# Altium schematic symbol library MDBU014A.SCHLIB: 81 symbols (part 2 of 2)
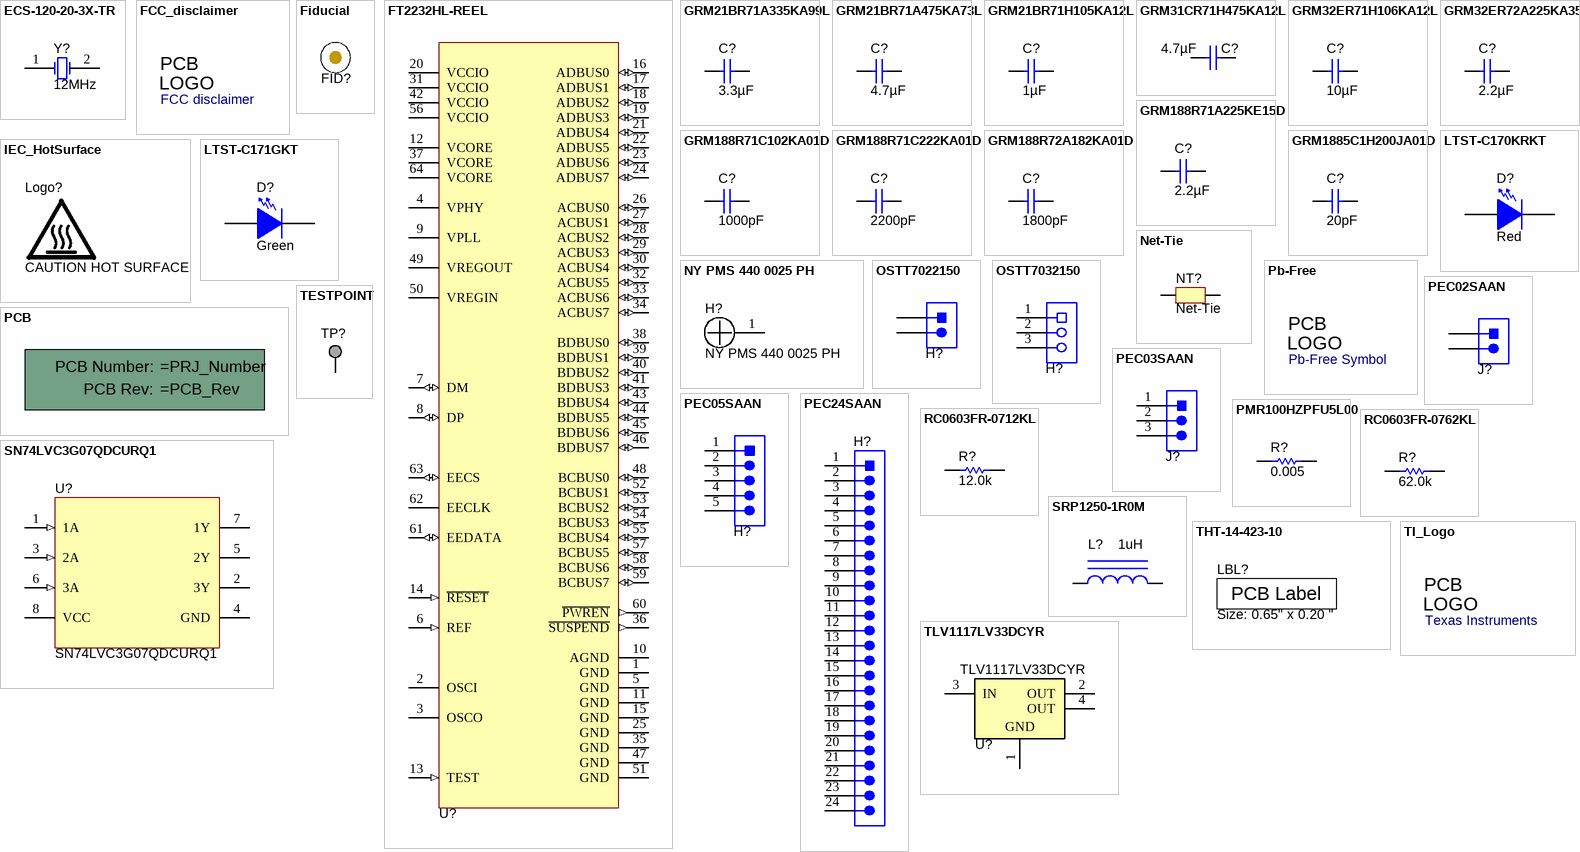
[diagram p3: symbols ECS-120-20-3X-TR to TLV1117LV33DCYR]

## LTST-C171GKT
designator D?  value Green  (hidden comment: LTST-C171GKT)
LED, Green, SMD; Manufacturer: Lite-On; Type: AlInGaP; Vf_V: 2.1; Value2: 2.1V; Io_A: 20; Value1: W; U/M: EA; CompType: LED; PartNumber: LTST-C171GKT; SymbolVersion: 2008-12-08; MountType: SMT; RoHS: Y; PackageReference: LED_0805; Color: green; Published: 2008-07-11; Publisher: Texas Instruments; ComponentLink1URL: https://sps06.itg.ti.com/sites/KMS/crossdivteams/altium/docs/ComponentDatasheets/LTST-C171GKT.pdf; ComponentLink1Description: Datasheet link; LatestRevisionDate: 2015-12-04; Supplier 1: Digi-Key; Supplier Part Number 1: 160-1423-1-ND; Supplier 2: Mouser; Supplier Part Number 2: 859-LTST-C171GKT
signal-integrity model Diode
footprint LED_LTST-C171
pins: 1 A, 2 K

## Net-Tie
designator NT?  (net tie, no BOM)
Single point connection between nets.; SymbolCreator: codlsc; SymbolVersion: 2009-07-01; MountType: SMT; Publisher: Texas Instruments; LatestRevisionDate: 2015-10-18; LatestRevisionNote: Added Alternate PartNumber and Alternate Manufacturer parameters to appropriate components.; PackageReference: N/A
footprint Net-Tie_10mil
footprint NetTie_1206 (1206 pads tied by 10mil copper trace which can be cut.  Part can be placed on pads.)
footprint Net-Tie_0805_HV
footprint NetTie_1206_NoOverlay (1206 pads tied by 10mil copper trace which can be cut.  Part can be placed on pads.)
footprint Net-Tie_0805_HV_NoOverlay (0805_HV pads tied by 10mil copper trace which can be cut.  An 0805 part can be placed on pads.)
footprint Net-Tie_10milWide_30milLong
footprint Net-Tie_20milWide_60milLong
footprint NetTie_0603
footprint NetTie_0402
footprint Net-Tie_50milWide_30milLong
pins: 1, 2

## NY PMS 440 0025 PH
designator H?
Machine Screw, Round, #4-40 x 1/4, Nylon, Philips panhead; Manufacturer: B&F Fastener Supply; CompType: Hardware; SymbolCreator: codlsc; U/M: EA; SymbolVersion: 2009-10-28; MountType: N/A; RoHS: Y; PartNumber: NY PMS 440 0025 PH; PackageReference: Screw; DigiKeyPartNumber: H542-ND; ComponentLink1Description: Datasheet Link; ComponentLink1URL: http://www.fasnetdirect.com/refguide/Nylpanms.pdf; ClassName: Mounting Holes; LatestRevisionDate: 2015-12-01; Publisher: Texas Instruments; Supplier 1: Digi-Key; Supplier Part Number 1: H542-ND
footprint NY PMS 440 0025 PH
footprint NY PMS 440 0025 PH_3Donly
pins: 1

## OSTT7022150
designator H?  (value not drawn)
Terminal Block, 30A, 9.52mm (.375) Pitch, 2-Pos, TH; Manufacturer: On-Shore Technology; SymbolCreator: a0412235; CompType: Connector; SymbolVersion: 2013-10-31; PartNumber: OSTT7022150; PackageReference: 19.62x21.5x12.5mm; RoHS: Y; MountType: TH; ComponentLink1Description: Datasheet URL; ComponentLink1URL: http://on-shore.com/sites/default/files/manuals/OSTT7XX2150.pdf; Publisher: Texas Instruments; LatestRevisionDate: 2015-12-23; Supplier 1: Digi-Key; Supplier Part Number 1: ED2677-ND
footprint TERM_BLK_OSTT7022150
pins: 1, 2
1 alternate drawing of the same symbol

## OSTT7032150
designator H?  (value not drawn)
Terminal Block, 3x1, 9.52mm, TH; Manufacturer: On-Shore Technology; SymbolCreator: a0412235; Pitch_mm: 9.52; Gender: Female; Row_Count: 1; ContactFinish: Brass; SymbolVersion: 2013-10-03; PartNumber: OSTT7032150; PackageReference: Terminal Block, 3x1, 9.52mm, TH; CompType: Terminal Block; RoHS: Y; MountType: TH; ComponentLink1Description: Datasheet URL; ComponentLink1URL: http://www.on-shore.com/sites/default/files/manuals/OSTT7XX2150.pdf; Orientation: Vertical; PinCount: 3; Color: Green; Publisher: Texas Instruments; LatestRevisionDate: 2015-12-23; Supplier 1: Digi-Key; Supplier Part Number 1: ED2678-ND
footprint On-Shore_OSTT7032150
pins: 1, 2, 3

## Pb-Free
designator Logo?, comment Pb-Free Symbol  (no BOM)
SymbolCreator: a0412235; SymbolVersion: 2011-08-22; Published: 2009-03-03; Publisher: Texas Instruments; LatestRevisionDate: 2014-11-20
footprint Pb-Free_Overlay_Medium
footprint Pb-Free_Overlay_Small
text: PCB; LOGO

## PCB
designator !PCB?, comment Printed Circuit Board  (value not drawn)  (mechanical)
Manufacturer: Any; SymbolCreator: a0412235; CompType: PCB; SymbolVersion: 2012-05-30; PartNumber: =PRJ_Number; RoHS: O; MountType: N/A; Publisher: Texas Instruments; LatestRevisionDate: 2015-12-01
1 alternate drawing of the same symbol
text: PCB Number:; PCB Rev:

## PEC02SAAN
designator J?  (value not drawn)
Header, 100mil, 2x1, Tin, TH; Manufacturer: Sullins Connector Solutions; SymbolCreator: a0412235; Pitch_mm: 2.54; Gender: Male; Shrouded: N; Row_Count: 1; Current_A: 3; Voltage_V: 1800; Cert_UL: Y; SymbolVersion: 2013-10-31; PartNumber: PEC02SAAN; PackageReference: Header, 2 PIN, 100mil, Tin; ClassName: Header; CompType: Header; RoHS: Y; MountType: TH; ComponentLink1Description: Datasheet URL; ComponentLink1URL: http://www.sullinscorp.com/catalogs/77_PAGE108-109_.100_MALE_HDR.pdf; Orientation: Vertical; PinCount: 2; ContactFinish: Tin; Color: Black; Publisher: Texas Instruments; LatestRevisionDate: 2015-12-04; Supplier 1: Digi-Key; Supplier Part Number 1: S1012E-02-ND
footprint CONN_PEC02SAAN
pins: 1, 2
1 alternate drawing of the same symbol

## PEC03SAAN
designator J?  (value not drawn)
Header, 100mil, 3x1, Tin, TH; Manufacturer: Sullins Connector Solutions; SymbolCreator: a0799628; Pitch_mm: 2.54; Gender: Male; Shrouded: N; Row_Count: 1; Current_A: 3; Voltage_V: 1800; Cert_UL: Y; SymbolVersion: 2013-03-28; PartNumber: PEC03SAAN; PackageReference: Header, 3 PIN, 100mil, Tin; ClassName: Header; CompType: Header; RoHS: Y; MountType: TH; ComponentLink1Description: Datasheet URL; ComponentLink1URL: http://www.sullinscorp.com/catalogs/77_PAGE108-109_.100_MALE_HDR.pdf; Publisher: Texas Instruments; LatestRevisionDate: 2015-12-04; Supplier 1: Digi-Key; Supplier Part Number 1: S1012E-03-ND; Orientation: Vertical; PinCount: 3; ContactFinish: Tin; Color: Black
footprint CONN_PEC03SAAN
pins: 1, 2, 3
3 alternate drawings of the same symbol

## PEC05SAAN
designator H?  (value not drawn)
Header, 2.54mm, 5x1, Tin, TH; Manufacturer: Sullins Connector Solutions; SymbolCreator: a0412235; Pitch_mm: 2.54; Gender: Male; Shrouded: N; Row_Count: 1; Current_A: 3; Voltage_V: 1800; Cert_UL: Y; SymbolVersion: 2013-12-22; PartNumber: PEC05SAAN; PackageReference: Header, 2.54mm, 5x1, TH; ClassName: Header; CompType: Header; RoHS: Y; MountType: TH; ComponentLink1Description: Datasheet URL; ComponentLink1URL: http://www.sullinscorp.com/catalogs/77_PAGE108-109_.100_MALE_HDR.pdf; Orientation: Vertical; PinCount: 5; ContactFinish: Tin; Color: Black; Publisher: Texas Instruments; LatestRevisionDate: 2015-12-29; Supplier 1: Digi-Key; Supplier Part Number 1: S1012E-05-ND
footprint Sullins_PxC05SAAN
pins: 1, 2, 3, 4, 5

## PEC24SAAN
designator H?  (value not drawn)
Header, 2.54mm, 24x1, Gold, TH; Manufacturer: Sullins Connector Solutions; SymbolCreator: a0799628; Pitch_mm: 2.54; Gender: Male; Shrouded: N; Row_Count: 1; ContactFinish: Tin; Current_A: 3; Voltage_V: 1800; Cert_UL: Y; SymbolVersion: 2013-10-11; PartNumber: PEC24SAAN; PackageReference: Header, 2.54mm, 24x1, TH; ClassName: Header; CompType: Header; RoHS: Y; MountType: TH; ComponentLink1Description: Datasheet URL; ComponentLink1URL: http://www.sullinscorp.com/catalogs/77_PAGE108-109_.100_MALE_HDR.pdf; Orientation: Vertical; PinCount: 24; Color: Black; Publisher: Texas Instruments; LatestRevisionDate: 2015-12-29; Supplier 1: Digi-Key; Supplier Part Number 1: S1012E-24-ND
footprint Sullins_PxC24SAAN
pins: 1, 2, 3, 4, 5, 6, 7, 8, 9, 10, 11, 12, 13, 14, 15, 16, 17, 18, 19, 20, 21, 22, 23, 24

## PMR100HZPFU5L00
designator R?, comment ValueDisplayed: 0.005  (hidden comment: LRMAP2512-R005FT4)
RES SMD 0.005 OHM 1% 3W 2512; Manufacturer: TT Electronics/Welwyn; CompType: Resistor; Value: 0.005; Value_Code: 5L000; Tolerance_%: 1; Power_W: 3; TempCo: 100 ppm/C; U/M: EA; AEC Category: Q200; SymbolVersion: 2009-05-29; PartNumber: LRMAP2512-R005FT4; PackageReference: 2512; RoHS: Y; Res_ohm: 0.005; Value1: 1%; Value2: 3W; MountType: SMT; Technology: Thick Film; Published: 2008-06-26; Publisher: Texas Instruments; LatestRevisionDate: 2015-12-18; ComponentLink1Description: Datasheet link; ComponentLink1URL: http://www.digikey.com/product-detail/en/LRMAP2512-R005FT4/985-1558-1-ND/4021294; Supplier 1: Digi-Key; Supplier Part Number 1: 985-1558-1-ND; AEC Qualified: ?
signal-integrity model Resistor
simulation model Resistor
footprint 2512
footprint 2512M
footprint 2512L
pins: 1, 2

## RC0603FR-0712KL
designator R?  value 12.0k  (hidden comment: RC0603FR-0712KL)
RES, 12.0 k, 1%, 0.1 W, 0603; Manufacturer: Yageo America; CompType: Resistor; Res_ohm: 12000; Value_Code: 12k0; Tolerance_%: 1; Power_W: 0.1; Value2: 0.1W; VDC_V: 150; TempCo: 200 ppm/C; U/M: EA; AEC Category: Q200; SymbolVersion: 2009-05-29; PartNumber: RC0603FR-0712KL; PackageReference: 0603; RoHS: Y; Value1: 1%; MountType: SMT; Technology: Thick Film; Published: 2008-06-26; Publisher: Texas Instruments; LatestRevisionDate: 2015-11-22; ComponentLink1Description: Datasheet link; ComponentLink1URL: http://www.yageo.com/pdf/Pu-RC0603_51_PbFree_L_2.pdf; Supplier 1: Digi-Key; Supplier Part Number 1: 311-12.0KHRCT-ND; Supplier 2: Mouser; Supplier Part Number 2: 603-RC0603FR-0712KL; Supplier 3: Farnell; Supplier Part Number 3: 9238611; ValueDisplayed: 12.0k; AEC Qualified: ?
signal-integrity model Resistor
simulation model Resistor
footprint 0603
footprint 0603M
footprint 0603L
footprint 0603_HV
footprint 0603S
pins: 1, 2

## RC0603FR-0762KL
designator R?  ValueDisplayed: 62.0k  (hidden comment: RC0603FR-0762KL)
RES, 62.0 k, 1%, 0.1 W, 0603; Manufacturer: Yageo America; CompType: Resistor; Value: 62.0k; Res_ohm: 62000; Value_Code: 62k0; Tolerance_%: 1; Power_W: 0.1; Value2: 0.1W; VDC_V: 150; TempCo: 200 ppm/C; U/M: EA; AEC Category: Q200; SymbolVersion: 2009-05-29; PartNumber: RC0603FR-0762KL; PackageReference: 0603; RoHS: Y; Value1: 1%; MountType: SMT; Technology: Thick Film; Published: 2008-06-26; Publisher: Texas Instruments; LatestRevisionDate: 2015-11-22; ComponentLink1Description: Datasheet link; ComponentLink1URL: http://www.yageo.com/pdf/Pu-RC0603_51_PbFree_L_2.pdf; Supplier 1: Digi-Key; Supplier Part Number 1: 311-62.0KHRCT-ND; Supplier 2: Mouser; Supplier Part Number 2: 603-RC0603FR-0762KL; AEC Qualified: ?
signal-integrity model Resistor
simulation model Resistor
footprint 0603
footprint 0603M
footprint 0603L
footprint 0603_HV
footprint 0603S
pins: 1, 2

## SN74LVC3G07QDCURQ1
designator U?
TRIPLE BUFFER/DRIVER WITH OPEN-DRAIN OUTPUTS, DCU0008A; Manufacturer: Texas Instruments; SymbolCreator: a0412235; CompType: IC; U/M: EA; SymbolVersion: 2014-08-13; PartNumber: SN74LVC3G07QDCURQ1; PackageReference: DCU0008A; MountType: SMT; ComponentLink1Description: Datasheet Link; ComponentLink1URL: http://www.ti.com/lit/ds/symlink/sn74lvc3g07-q1.pdf; RoHS: Y; Publisher: Texas Instruments; LatestRevisionDate: 2015-12-28; Alternate Manufacturer: Texas Instruments
footprint DCU0008A_N
footprint DCU0008A_M
footprint DCU0008A_L
pins: 1 1A (in), 2 3Y (oc), 3 2A (in), 4 GND (power), 5 2Y (oc), 6 3A (in), 7 1Y (oc), 8 VCC (power)

## SRP1250-1R0M
designator L?  value 1uH  (hidden comment: SRP1250-1R0M)
Inductor, Powdered Iron, 1 µH, 29 A, 0.0025 ohm, SMD; Manufacturer: Bourns; Ind_H: 1.0E-6; ValueDisplayed: 1µH; Imax_A: 29; Irms: 29A @ 40C rise; Isat: 50A @ 20% inductance drop; DCR_ohm: 0.0025; Value2: 29A; AEC Category: Q200; SymbolVersion: 2008-07-23; CompType: Inductor; PartNumber: SRP1250-1R0M; Value1: 0.0025 ohm; Technology: ?; MountType: SMT; Material: Powdered Iron; PackageReference: 13.9x5.9x13.5mm; Published: 2008-06-26; Publisher: Texas Instruments; LatestRevisionDate: 2015-11-16; ComponentLink1Description: Datasheet link; ComponentLink1URL: http://www.bourns.com/data/global/pdfs/SRP1250.pdf; RoHS: Y; Supplier 1: Digi-Key; Supplier Part Number 1: SRP1250-1R0MCT-ND; Supplier 2: Mouser; Supplier Part Number 2: 652-SRP1250-1R0M; Supplier 3: Farnell; Supplier Part Number 3: 1828114; AEC Qualified: ?
signal-integrity model Inductor
simulation model Inductor
footprint SRP1250
pins: 1, 2

## TESTPOINT
designator TP?  (value not drawn)  (no BOM)
TEST POINT.  No entry in BOM.; SymbolVersion: 2010-10-20; CompType: Testpoint; PackageReference: N/A; Publisher: Texas Instruments; LatestRevisionDate: 2015-10-18; LatestRevisionNote: Added Alternate PartNumber and Alternate Manufacturer parameters to appropriate components.
footprint TESTPOINT
footprint TP_VIA_018RND008
footprint TP_VIA_060RND040
footprint TP_25MIL-SMT
footprint TP_50MIL-25MILHOLE
footprint TP_60MIL-SMT
pins: 1

## THT-14-423-10
designator LBL?, comment Size: 0.65" x 0.20 "
Thermal Transfer Printable Labels, 0.650" W x 0.200" H - 10,000 per roll; Manufacturer: Brady; PartNumber: THT-14-423-10; SymbolCreator: a0412235; CompType: Label; SymbolVersion: 2012-06-12; ClassName: Label; RoHS: Y; PackageReference: PCB Label 0.650"H x 0.200"W; MountType: N/A; ComponentLink1Description: Web Page; ComponentLink1URL: http://www.bradyid.com/bradyid/pdpv/THT-14-423-10.html; Note: Size: 0.65" x 0.20 "; Publisher: Texas Instruments; LatestRevisionDate: 2015-12-21; Supplier 1: Farnell; Supplier Part Number 1: 2065596; Supplier 2: Newark; Supplier Part Number 2: 97C5133
footprint Label_650x200
text: PCB Label

## TI_Logo
designator Logo?, comment Texas Instruments  (no BOM)
Texas Instrument Corporate Signature; SymbolCreator: a0412235; SymbolVersion: 2011-08-22; Published: 2009-03-03; Publisher: Texas Instruments; ClassName: Logo; LatestRevisionDate: 2014-11-20
footprint TI_Stacked_SolderMask_Medium
footprint TI_Stacked_SolderMask_Medium_Vertical
footprint TI_Stacked_SolderMask_Small
footprint TI_Stacked_SolderMask_Small_Vertical
footprint TI_Stacked_Overlay_Medium
footprint TI_Stacked_Overlay_Medium_Vertical
footprint TI_Stacked_Overlay_Small
footprint TI_Stacked_Overlay_Small_Vertical
footprint TI_Horizontal_SolderMask_Small
footprint TI_Horizontal_Overlay_Medium
footprint TI_Horizontal_Overlay_Small
footprint TI_Symbol_SolderMask_Medium
footprint TI_Symbol_SolderMask_Small
footprint TI_Symbol_Overlay_Medium
footprint TI_Symbol_Overlay_Small
footprint TI_Horizontal_SolderMask_Medium
text: PCB; LOGO

## TLV1117LV33DCYR
designator U?
Single Output LDO, 1 A, Fixed 3.3 V Output, 2 to 5.5 V Input, 4-pin SOT-223 (DCY), -40 to 125 degC, Green (RoHS & no Sb/Br); Manufacturer: Texas Instruments; Alternate PartNumber: Equivalent; Accuracy(%): 2; Fixed Output Options(V): 3.3; Iout(Max)(A): 1; Iq(Typ)(mA): 0.05; SubFamily: Single Channel LDO; Vdo(Typ)(mV): 1200; Vin(Max)(V): 5.5; DatasheetVersion: SBVS160A; PackageVersion: 4202506/B; PackageReference: DCY0004A; PackageDescription: 4-Pin Plastic Small Outline, Body 3.5 x 6.5 mm, Pitch 2.3 mm; Supplier 1: Digi-Key; Supplier Part Number 1: 296-28778-2-ND; Supplier 2: Digi-Key; Supplier Part Number 2: 296-28778-1-ND; Supplier 3: Digi-Key; Supplier Part Number 3: 296-28778-6-ND; Supplier 4: Newark; Supplier Part Number 4: 48T4644; Supplier 5: Mouser; Supplier Part Number 5: 595-TLV1117LV33DCYR; Eco-Plan: Green (RoHS & no Sb/Br); Vin(Min)(V): 2; Vout Adj(Max)(V): 3.3; Vout Adj(Min)(V): 3.3; MountType: SMT; Code_JEDEC: TO-261; PartNumber: TLV1117LV33DCYR; ComponentLink1Description: Manufacturer URL; ComponentLink1URL: http://www.ti.com/; ComponentLink2Description: Datasheet; ComponentLink2URL: http://www.ti.com/general/docs/lit/getliterature.tsp?genericPartNumber=TLV1117LV33&fileType=pdf; ComponentLink3Description: Package Specification; ComponentLink3URL: http://www.ti.com/litv/pdf/mpds094a; Alternate Manufacturer: Texas Instruments
footprint DCY0004A_N (SOT223, 4-Leads, Body 6.5x3.5mm, Pitch 2.3mm, IPC Medium Density)
footprint DCY0004A_L (SOT223, 4-Leads, Body 6.5x3.5mm, Pitch 2.3mm, IPC High Density)
footprint DCY0004A_M (SOT223, 4-Leads, Body 6.5x3.5mm, Pitch 2.3mm, IPC Low Density)
pins: 1 GND (power) "Ground pin", 2 OUT (power) "Regulated output voltage pin.", 3 IN (power) "Input pin.", 4 OUT (power) "Regulated output voltage pin."

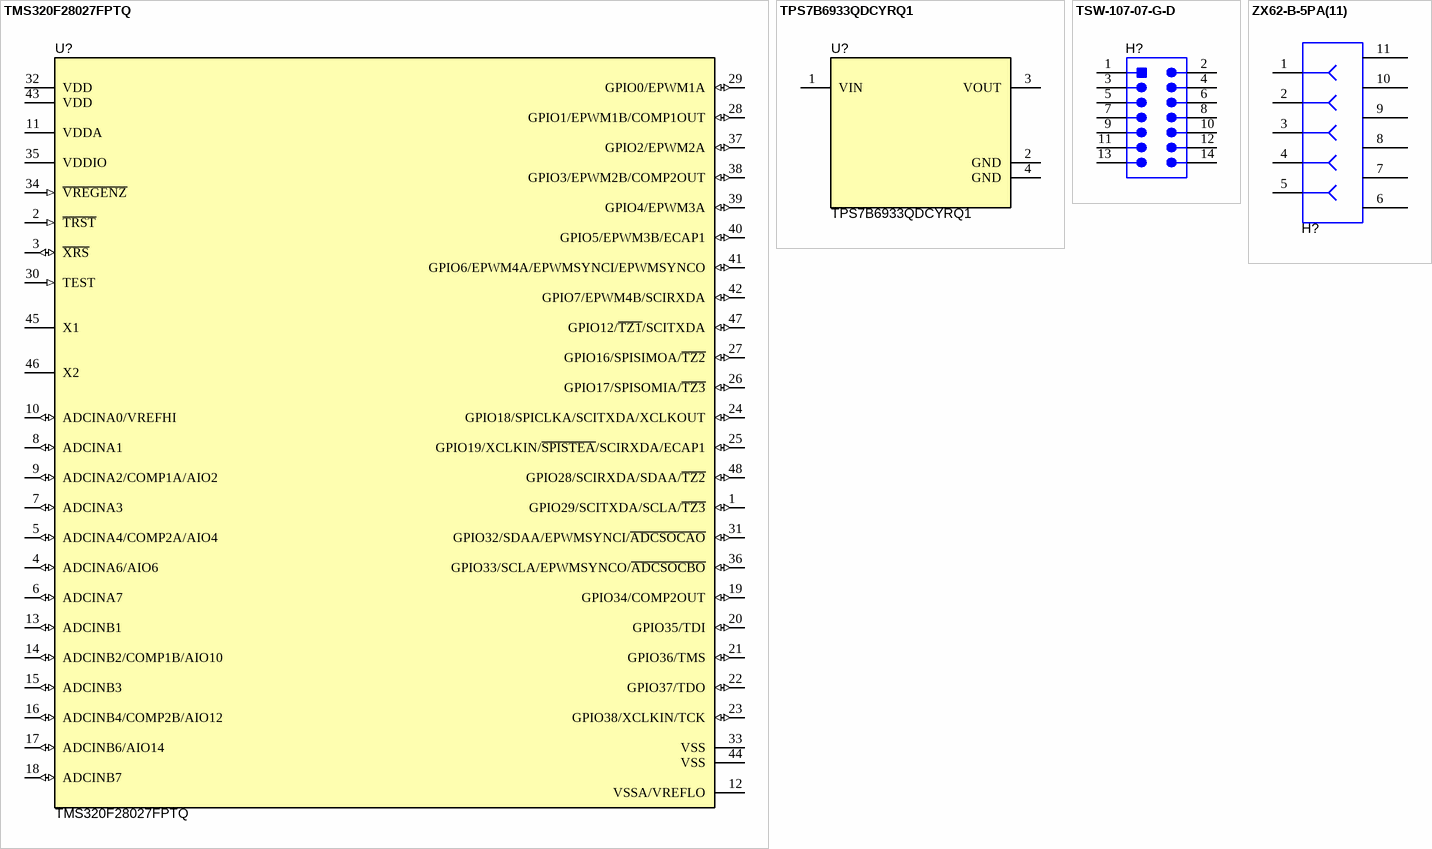
[diagram p2: symbols TMS320F28027FPTQ to ZX62-B-5PA(11)]

## TMS320F28027FPTQ
designator U?
Piccolo Microcontroller, PT0048A; Alternate PartNumber: TMS320F28027FPTT; Manufacturer: Texas Instruments; SymbolCreator: Altium; CompType: IC; U/M: EA; SymbolVersion: 2015-06-16; PartNumber: TMS320F28027FPTQ; PackageReference: PT0048A; MountType: SMT; ComponentLink1Description: Datasheet Link; ComponentLink1URL: http://www.ti.com/lit/ds/symlink/tms320f28027f.pdf; RoHS: Y; Publisher: Texas Instruments; LatestRevisionDate: 2015-12-21; Alternate Manufacturer: Texas Instruments
footprint PT0048A_N
footprint PT0048A_M
footprint PT0048A_L
pins: 1 GPIO29/SCITXDA/SCLA/~{TZ3} (io), 2 ~{TRST} (in), 3 ~{XRS} (io), 4 ADCINA6/AIO6 (io), 5 ADCINA4/COMP2A/AIO4 (io), 6 ADCINA7 (io), 7 ADCINA3 (io), 8 ADCINA1 (io), 9 ADCINA2/COMP1A/AIO2 (io), 10 ADCINA0/VREFHI (io), 11 VDDA (power), 12 VSSA/VREFLO (power), 13 ADCINB1 (io), 14 ADCINB2/COMP1B/AIO10 (io), 15 ADCINB3 (io), 16 ADCINB4/COMP2B/AIO12 (io), 17 ADCINB6/AIO14 (io), 18 ADCINB7 (io), 19 GPIO34/COMP2OUT (io), 20 GPIO35/TDI (io), 21 GPIO36/TMS (io), 22 GPIO37/TDO (io), 23 GPIO38/XCLKIN/TCK (io), 24 GPIO18/SPICLKA/SCITXDA/XCLKOUT (io), 25 GPIO19/XCLKIN/~{SPISTEA}/SCIRXDA/ECAP1 (io), 26 GPIO17/SPISOMIA/~{TZ3} (io), 27 GPIO16/SPISIMOA/~{TZ2} (io), 28 GPIO1/EPWM1B/COMP1OUT (io), 29 GPIO0/EPWM1A (io), 30 TEST (in), 31 GPIO32/SDAA/EPWMSYNCI/~{ADCSOCAO} (io), 32 VDD (power), 33 VSS (power), 34 ~{VREGENZ} (in), 35 VDDIO (power), 36 GPIO33/SCLA/EPWMSYNCO/~{ADCSOCBO} (io), 37 GPIO2/EPWM2A (io), 38 GPIO3/EPWM2B/COMP2OUT (io), 39 GPIO4/EPWM3A (io), 40 GPIO5/EPWM3B/ECAP1 (io), 41 GPIO6/EPWM4A/EPWMSYNCI/EPWMSYNCO (io), 42 GPIO7/EPWM4B/SCIRXDA (io), 43 VDD (power), 44 VSS (power), 45 X1, 46 X2, 47 GPIO12/~{TZ1}/SCITXDA (io), 48 GPIO28/SCIRXDA/SDAA/~{TZ2} (io)

## TPS7B6933QDCYRQ1
designator U?
High Voltage Ultra Low Iq - Low Drop Out Regulator, DCY0004A; Manufacturer: Texas Instruments; SymbolCreator: Altium; CompType: IC; U/M: EA; SymbolVersion: 2014-08-05; PartNumber: TPS7B6933QDCYRQ1; PackageReference: DCY0004A; MountType: SMT; ComponentLink1Description: Datasheet Link; ComponentLink1URL: http://www.ti.com/lit/ds/symlink/tps7b6933-q1.pdf; Publisher: Texas Instruments; LatestRevisionDate: 2015-12-29; Alternate Manufacturer: Texas Instruments
footprint DCY0004A_N
footprint DCY0004A_M
footprint DCY0004A_L
pins: 1 VIN (power) "Input power supply voltage", 2 GND (power) "Ground reference", 3 VOUT (power) "Output voltage", 4 GND (power) "Ground reference"

## TSW-107-07-G-D
designator H?  (value not drawn)
Header, 100mil, 7x2, Gold, TH; Manufacturer: Samtec; SymbolCreator: a0412235; Pitch_mm: 2.54; Gender: Male; Shrouded: N; Row_Count: 2; Current_A: 6.3; Voltage_V: 550; Cert_CSA: Y; SymbolVersion: 2013-12-22; PartNumber: TSW-107-07-G-D; PackageReference: 7x2 Header; ClassName: Header; CompType: Header; RoHS: Y; MountType: TH; ComponentLink1Description: Datasheet URL; ComponentLink1URL: http://samtec.com/ftppub/pdf/TSW_TH.PDF; Orientation: Vertical; PinCount: 14; RowSpacing_mm: 2.54; ContactFinish: Gold; Color: Black; Cert_UL: Y; Cert_CULUS: N; Cert_VDE: N; Publisher: Texas Instruments; LatestRevisionDate: 2015-12-14; Supplier 1: Digi-Key; Supplier Part Number 1: SAM1028-07-ND
footprint TSW-107-07-G-D
footprint TSW-107-07-X-D
pins: 1, 2, 3, 4, 5, 6, 7, 8, 9, 10, 11, 12, 13, 14

## ZX62-B-5PA(11)
designator H?  (value not drawn)
Connector, micro USB Type B, Receptacle, R/A, SMD; Manufacturer: Hirose Electric Co. Ltd.; SymbolCreator: a0411947; U/M: EA; SymbolVersion: 2013-04-05; PartNumber: ZX62-B-5PA(11); PackageReference: Micro USB-B receptacle; CompType: Receptacle; RoHS: Y; MountType: SMT; ComponentLink1Description: Datasheet Link; ComponentLink1URL: http://www.hirose.co.jp/cataloge_hp/e24200011.pdf; Publisher: Texas Instruments; LatestRevisionDate: 2014-02-24; Supplier 1: Digi-Key; Supplier Part Number 1: H11634CT-ND; Supplier 2: Mouser; Supplier Part Number 2: 798-ZX62-B-5PA11; Supplier 3: Farnell; Supplier Part Number 3: 1645325
footprint CONN_USB_micro_ZX62-B-5PA
pins: 1, 2, 3, 4, 5, 6, 7, 8, 9, 10, 11